# Altium footprint library A.PcbLib: 25 footprints (part 2 of 2)
Each footprint in its own frame and in the unit in brackets; x right, y up, seen from the top. Pads: shape width x height; smd on the part's side, far side on the other; paste and mask are expansions set on the pad; w line width, h text height; cw(c..) or ccw(c..) is an arc to the next point about the centre after c.
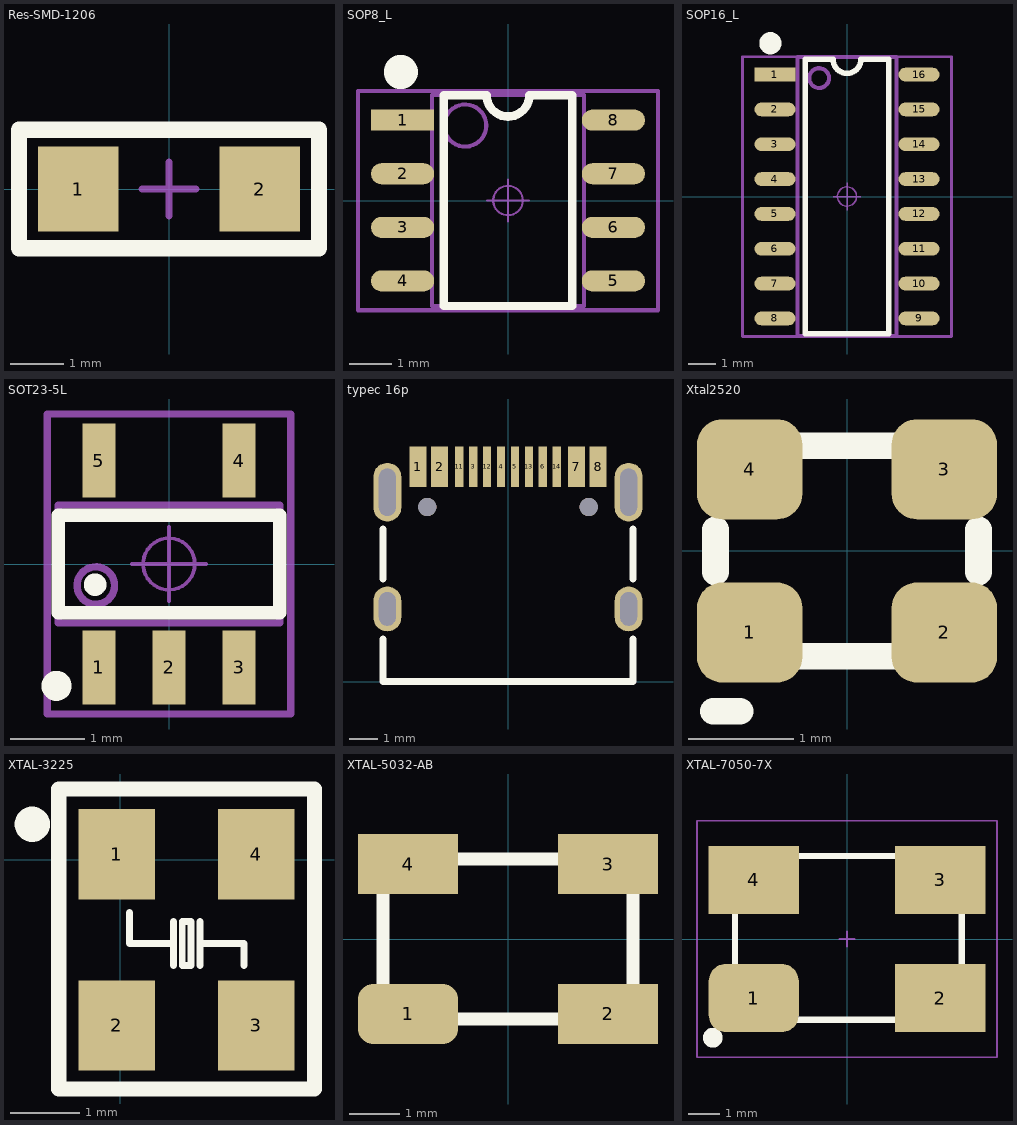
[diagram p1: the footprints below, top view; thin cyan lines are the x and y axes]

## Res-SMD-1206 [mil] "1/4W贴片电阻"
pads (2):
  rect 60x62.99 smd: 1(-67.5,0) 2(67.5,0)
Top Overlay:
  lines w12: -111.5,-44 111.5,-44 111.5,44 -111.5,44 -111.5,-44
Mechanical 15:
  lines w5: -20,0 20,0 ; 0,-20 0,20
3D body "R 1206.STEP": height 21.69, standoff -0.24, extent -62.99,-31.49 63,31.5

## SOP8_L [mm] "5*6*1.8mm（长宽高）"
height 1.75
pads (8):
  rect 1.5x0.5 smd: 1(-2.5,1.905)
  oval 1.5x0.5 smd: 2(-2.5,0.635) 3(-2.5,-0.635) 4(-2.5,-1.905) 5(2.5,-1.905) 6(2.5,-0.635) 7(2.5,0.635) 8(2.5,1.905)
Top Overlay:
  circle w0.5: c-2.54,3.048 r0.155
  lines w0.2: -1.524,2.5 -1.524,-2.5 1.524,-2.5 1.524,2.5
  lines w0.203: -1.524,2.5 -0.508,2.5 ccw(c0,2.5) 0,1.992 ccw(c0,2.5) 0.508,2.5 1.524,2.5
Mechanical 13:
  circle w0.1: c-1.016,1.778 r0.5
  lines w0.1: -1.8,-2.5 -1.8,2.5 1.8,2.5 1.8,-2.5 -1.8,-2.5
Mechanical 15:
  circle w0.05: c0,0 r0.35
  lines w0.05: -0.5,0 0.5,0 ; 0,-0.5 0,0.5
  lines w0.1: -3.556,-2.6 -3.556,2.6 3.556,2.6 3.556,-2.6 -3.556,-2.6
3D body "SOP8.STEP": height 1.9, standoff 0, extent -3.003,-2.5 3.003,2.5

## SOP16_L [mm] "10.3*6.2*1.8mm（长宽高）"
height 1.75
pads (16):
  rect 1.5x0.5 smd: 1(-2.625,4.445)
  oval 1.5x0.5 smd: 2(-2.625,3.175) 3(-2.625,1.905) 4(-2.625,0.635) 5(-2.625,-0.635) 6(-2.625,-1.905) 7(-2.625,-3.175) 8(-2.625,-4.445) 9(2.625,-4.445) 10(2.625,-3.175) 11(2.625,-1.905) 12(2.625,-0.635) 13(2.625,0.635) 14(2.625,1.905) 15(2.625,3.175) 16(2.625,4.445)
Top Overlay:
  circle w0.5: c-2.794,5.588 r0.155
  lines w0.2: -1.524,5 -1.524,-5 1.524,-5 1.524,5
  lines w0.203: -1.524,5 -0.508,5 ccw(c0,5) 0,4.492 ccw(c0,5) 0.508,5 1.524,5
Mechanical 13:
  circle w0.15: c-1.016,4.318 r0.359
  lines w0.15: -1.8,-5.08 1.8,-5.08 1.8,5.08 -1.8,5.08 -1.8,-5.08
Mechanical 15:
  circle w0.05: c0,0 r0.35
  lines w0.05: -0.5,0 0.5,0 ; 0,-0.5 0,0.5
  lines w0.1: -3.81,-5.1 -3.81,5.1 3.81,5.1 3.81,-5.1 -3.81,-5.1
3D body "SOP16.STEP": height 1.9, standoff 0, extent -3.003,-5 3.003,5

## SOT23-5L [mm] "3x1.6x1.1mm(长宽高)"
pads (5):
  rect 0.45x1 smd: 1(-0.95,-1.4) 2(0,-1.4) 3(0.95,-1.4) 4(0.95,1.4) 5(-0.95,1.4)
Top Overlay:
  circle w0.254: c-1.524,-1.651 r0.076
  circle w0.254: c-1.001,-0.279 r0.025
  lines w0.178: -1.5,-0.66 -1.5,0.66 1.5,0.66 1.5,-0.66 -1.5,-0.66
Mechanical 13:
  circle w0.1: c-0.992,-0.292 r0.254
  lines w0.1: -1.5,-0.8 1.5,-0.8 1.5,0.8 -1.5,0.8 -1.5,-0.8
Mechanical 15:
  circle w0.05: c0,0 r0.35
  lines w0.05: -0.5,0 0.5,0 ; 0,-0.5 0,0.5
  lines w0.1: -1.651,-2.032 1.651,-2.032 1.651,2.032 -1.651,2.032 -1.651,-2.032
3D body "SOT23-5.STEP": height 1.15, standoff -0.03, extent -1.5,-1.403 1.5,1.403

## typec 16p [mm]
height 3.2
pads (18):
  rect 0.6x1.45 smd: 1(-3.225,7.695) 2(-2.45,7.695) 7(2.45,7.695) 8(3.225,7.695)
  rect 0.3x1.45 smd: 3(-1.25,7.695) 4(-0.25,7.695) 5(0.25,7.695) 6(1.25,7.695) 11(-1.75,7.695) 12(-0.75,7.695) 13(0.75,7.695) 14(1.75,7.695)
  oval 1x1.6 hole 0.6 slot 1.2 at 90 deg: ""(-4.32,2.6) ""(4.32,2.6)
  oval 1x2.1 hole 0.6 slot 1.7 at 90 deg: ""(-4.32,6.78) ""(4.32,6.78)
  round 0.65 hole 0.65 unplated: ""(-2.89,6.25) ""(2.89,6.25)
Top Overlay:
  lines w0.254: -4.47,1.524 -4.47,0 4.47,0 4.47,1.524 ; -4.47,3.683 -4.47,5.461 ; 4.47,3.683 4.47,5.461

## Xtal2520 [mm]
pads (4):
  rrect50% 1x0.95 smd: 1(-0.925,-0.775) 2(0.925,-0.775) 3(0.925,0.775) 4(-0.925,0.775)
Top Overlay:
  lines w0.254: -1.27,-1.524 -1.016,-1.524 ; -1.25,-0.2 -1.25,0.2 ; -0.45,-1 0.45,-1 ; -0.45,1 0.45,1 ; 1.25,-0.2 1.25,0.2

## XTAL-3225 [mm]
pads (4):
  rect 1.1x1.3 smd: 1(-0.051,0.076) 2(-0.051,-2.388) 3(1.956,-2.388) 4(1.956,0.076)
Top Overlay:
  circle w0.254: c-1.27,0.508 r0.127
  lines w0.1: 0.127,-0.762 0.127,-1.206 0.762,-1.206 ; 0.762,-1.524 0.762,-0.889 ; 1.143,-1.524 1.143,-0.889 ; 1.143,-1.206 1.778,-1.206 1.778,-1.524 ; 0.889,-1.524 1.016,-1.524 1.016,-0.889 0.889,-0.889 0.889,-1.524
  lines w0.22: -0.889,-3.302 -0.889,1.016 2.794,1.016 2.794,-3.302 -0.889,-3.302
3D body "XTAL-3225.STEP": height 0.8, standoff 0, extent -0.336,-2.743 2.164,0.457

## XTAL-5032-AB [mm]
pads (4):
  rrect50% 2x1.2 smd: 1(-2,-1.5)
  rect 2x1.2 smd: 2(2,-1.5) 3(2,1.5) 4(-2,1.5)
Top Overlay:
  lines w0.254: -2.5,-1.6 2.5,-1.6 2.5,1.6 -2.5,1.6 -2.5,-1.6
3D body "User Library-CRYSTALSMD5X32.STEP": height 1, standoff 0, extent -2.531,-1.609 2.469,1.591

## XTAL-7050-7X [mm] "Oscillator"
pads (4):
  rrect50% 2.9x2.2 smd: 1(-3,-1.9)
  rect 2.9x2.2 smd: 2(3,-1.9) 3(3,1.9) 4(-3,1.9)
Top Overlay:
  circle w0.381: c-4.318,-3.175 r0.127
  lines w0.203: -3.603,-2.594 -3.603,2.67 3.69,2.67 3.69,-2.594 -3.603,-2.594
Mechanical 15:
  lines w0.05: -0.254,0 0.254,0 ; 0,-0.254 0,0.254 ; -4.826,-3.81 4.826,-3.81 4.826,3.81 -4.826,3.81 -4.826,-3.81
3D body "XTAL-7050.STEP": height 1, standoff 0, extent -3.445,-2.458 3.555,2.542